# Altium footprint library RT_BEAD_TH_short.PcbLib: 1 footprints
Each footprint in its own frame and in the unit in brackets; x right, y up, seen from the top. Pads: shape width x height; smd on the part's side, far side on the other; paste and mask are expansions set on the pad; w line width, h text height; cw(c..) or ccw(c..) is an arc to the next point about the centre after c.
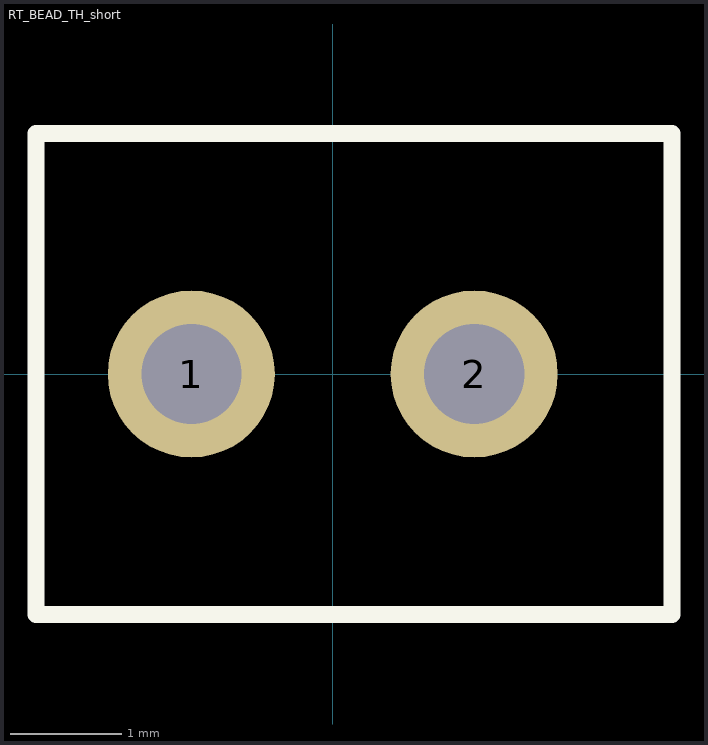
[diagram p0: the footprint, top view; thin cyan lines are the x and y axes]

## RT_BEAD_TH_short [mm] "NTC Thermistor Bead"
pads (2):
  round 1.5 hole 0.9: 1(-1.27,0) 2(1.27,0)
Top Overlay:
  lines w0.152: -2.667,-2.159 3.048,-2.159 3.048,2.159 -2.667,2.159 -2.667,-2.159
3D body "Vishay Intertechnology-NTCLE203E3103SB0 10k.STEP": height 14.35, standoff -32.65, extent -2.099,-2 2.082,2